# EAGLE library part PANSTAMP-AVR-2 (library Components)
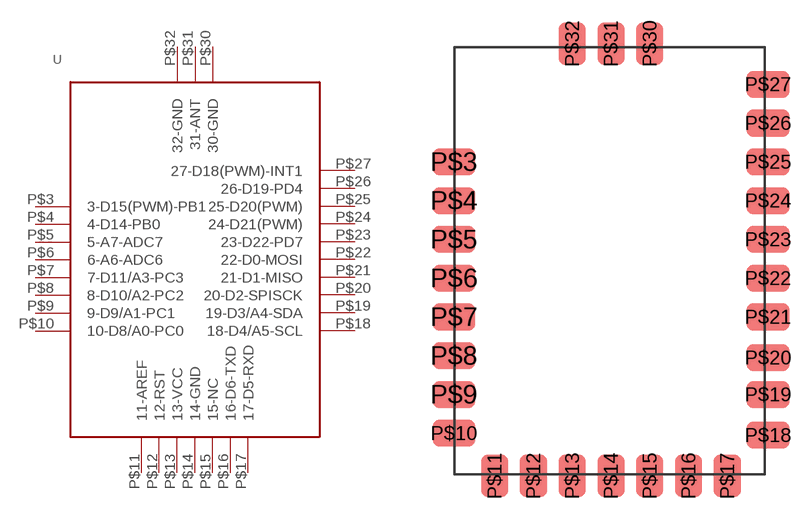
[diagram p1: symbol with the pads of SMD-PAD-34; footprint SMD-PAD-34]

Designator prefix -

## PANSTAMP-AVR-2  [SMD-PAD-34]
P$3  3-D15(PWM)-PB1
P$4  4-D14-PB0
P$5  5-A7-ADC7
P$6  6-A6-ADC6
P$7  7-D11/A3-PC3
P$8  8-D10/A2-PC2
P$9  9-D9/A1-PC1
P$10  10-D8/A0-PC0
P$11  11-AREF
P$12  12-RST
P$13  13-VCC
P$14  14-GND
P$15  15-NC
P$16  16-D6-TXD
P$17  17-D5-RXD
P$18  18-D4/A5-SCL
P$19  19-D3/A4-SDA
P$20  20-D2-SPISCK
P$21  21-D1-MISO
P$22  22-D0-MOSI
P$23  23-D22-PD7
P$24  24-D21(PWM)
P$25  25-D20(PWM)
P$26  26-D19-PD4
P$27  27-D18(PWM)-INT1
P$30  30-GND
P$31  31-ANT
P$32  32-GND

## Footprint SMD-PAD-34 (pad centres in mm)
smd 2.2 x 1.4: P$3 -0.026,16.111; P$4 -0.026,14.111; P$5 -0.026,12.111; P$6 -0.026,10.111; P$7 -0.026,8.111; P$8 -0.026,6.111; P$9 -0.026,4.111; P$10 -0.026,2.111; P$18 16.174,2.011; P$19 16.174,4.111; P$20 16.174,6.011; P$21 16.174,8.111; P$22 16.174,10.111; P$23 16.174,12.111; P$24 16.174,14.111; P$25 16.174,16.111; P$26 16.174,18.111; P$27 16.174,20.111
smd 1.4 x 2.2: P$11 2.074,-0.089; P$12 4.074,-0.089; P$13 6.074,-0.089; P$14 8.074,-0.089; P$15 10.074,-0.089; P$16 12.074,-0.089; P$17 14.074,-0.089; P$30 10.074,22.211; P$31 8.074,22.211; P$32 6.074,22.211